# Altium schematic symbol library PJ-067B.SchLib: 1 symbol
Pins are listed as number, name and electrical type; pins without a type are passive.

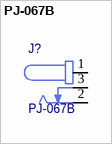
[diagram p0: symbol PJ-067B]

## PJ-067B
designator J?
Value: *
pins: 1, 2, 3